# EAGLE library part IR21094 (library MakeItLabs)
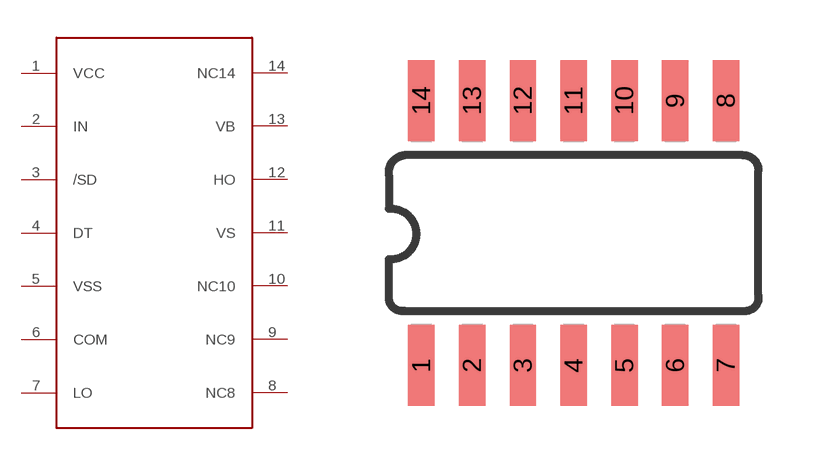
[diagram p6: symbol with the pads of SOIC-14; footprint SOIC-14]

Designator prefix -

## IR21094  [SOIC-14]
1  VCC
2  IN
3  /SD
4  DT
5  VSS
6  COM
7  LO
8  NC8
9  NC9
10  NC10
11  VS
12  HO
13  VB
14  NC14

## Footprint SOIC-14 (pad centres in mm)
smd 0.66 x 2.032: 1 -4.445,-3.315; 2 -3.175,-3.315; 3 -1.905,-3.315; 4 -0.635,-3.315; 5 0.635,-3.315; 6 1.905,-3.315; 7 3.175,-3.315; 8 3.175,3.315; 9 1.905,3.315; 10 0.635,3.315; 11 -0.635,3.315; 12 -1.905,3.315; 13 -3.175,3.315; 14 -4.445,3.315